# Altium footprint library RESC3225X65L.PCBLIB: 1 footprints
Each footprint in its own frame and in the unit in brackets; x right, y up, seen from the top. Pads: shape width x height; smd on the part's side, far side on the other; paste and mask are expansions set on the pad; w line width, h text height; cw(c..) or ccw(c..) is an arc to the next point about the centre after c.
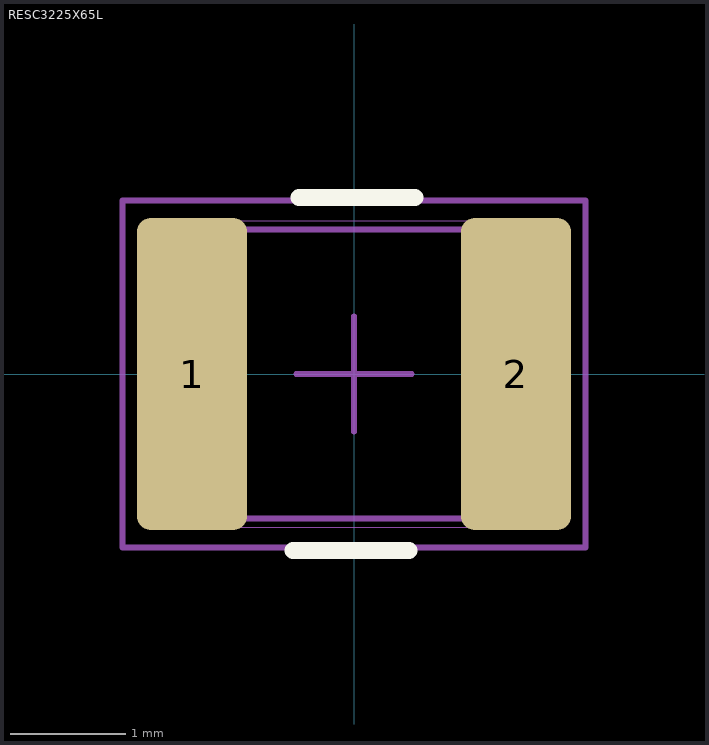
[diagram p0: the footprint, top view; thin cyan lines are the x and y axes]

## RESC3225X65L [mm] "RES 1210 (3225 metric) Least"
height 0.65
pads (2):
  rrect25% 0.95x2.7 smd paste+0: 1(-1.4,0) 2(1.4,0)
Top Overlay:
  lines w0.15: -0.525,-1.525 0.475,-1.525 ; -0.475,1.525 0.525,1.525
Top Component Outline:
  lines w0.001: -1.675,-1.325 -1.675,1.325 1.675,1.325 1.675,-1.325 -1.675,-1.325
  lines w0.05: -1.6,-1.25 -1.6,1.25 1.6,1.25 1.6,-1.25 -1.6,-1.25
Top Courtyard:
  lines w0.05: -0.5,0 0.5,0 ; 0,-0.5 0,0.5 ; -2,-1.5 -2,1.5 2,1.5 2,-1.5 -2,-1.5
3D body: height 0.65, standoff 0.05, extent 1.119,-1.325 1.676,1.325
3D body: height 0.65, standoff 0.05, extent -1.675,-1.325 -1.118,1.325
3D body: height 0.65, standoff 0.05, extent -1.118,-1.325 1.119,1.325